# EAGLE library part IP4254CZ16-8-TTL (library NXP_By_element14_Batch_1)
8-channel passive filter network with ESD protection
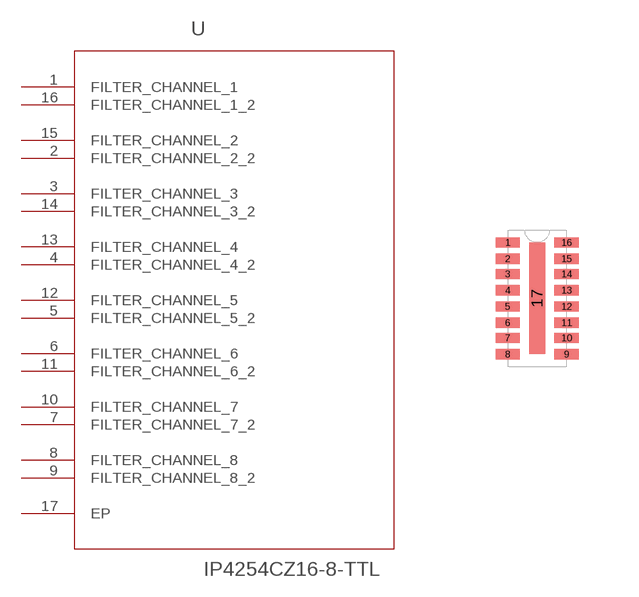
[diagram p298: symbol with the pads of SON40P135X330X55-17N; footprint SON40P135X330X55-17N]

Designator prefix U

## IP4254CZ16-8-TTL (MPN: IP4254CZ16-8-TTL; OC_FARNELL: 1972694; OC_NEWARK: 58T9589; PACKAGE: HUSON-16; SUPPLIER: NXP)  [SON40P135X330X55-17N]
1  FILTER_CHANNEL_1  pas
2  FILTER_CHANNEL_2_2  pas
3  FILTER_CHANNEL_3  pas
4  FILTER_CHANNEL_4_2  pas
5  FILTER_CHANNEL_5_2  pas
6  FILTER_CHANNEL_6  pas
7  FILTER_CHANNEL_7_2  pas
8  FILTER_CHANNEL_8  pas
9  FILTER_CHANNEL_8_2  pas
10  FILTER_CHANNEL_7  pas
11  FILTER_CHANNEL_6_2  pas
12  FILTER_CHANNEL_5  pas
13  FILTER_CHANNEL_4  pas
14  FILTER_CHANNEL_3_2  pas
15  FILTER_CHANNEL_2  pas
16  FILTER_CHANNEL_1_2  pas
17  EP  pas

## Footprint SON40P135X330X55-17N (pad centres in mm)
smd 0.61 x 0.254: 1 -0.737,1.397; 2 -0.737,0.991; 3 -0.737,0.61; 4 -0.737,0.203; 5 -0.737,-0.203; 6 -0.737,-0.61; 7 -0.737,-0.991; 8 -0.737,-1.397; 9 0.737,-1.397; 10 0.737,-0.991; 11 0.737,-0.61; 12 0.737,-0.203; 13 0.737,0.203; 14 0.737,0.61; 15 0.737,0.991; 16 0.737,1.397
smd 0.406 x 2.794: 17 0,0